# EAGLE library part IEC60034-8_3PHZ (library M-ExProof)
Single three-phase winding for delta and Y (star) connection. NOTE: 230V delta supply is the same as a 400V Y. The motor is connected Y for full power, and delta for reduced starting current.
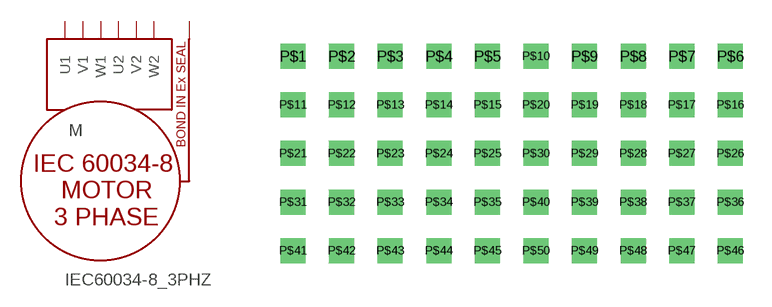
[diagram p0: symbol with the pads of NA-50; footprint NA-50]

Designator prefix M

## IEC60034-8_3PHZ  [NA-50]
P$1  GND
P$2  U1
P$3  U2
P$4  V1
P$5  V2
P$6  W1
P$7  W2

## Footprint NA-50 (pad centres in mm)
drill 0.8 square: P$1 -11.43,5.08; P$2 -8.89,5.08; P$3 -6.35,5.08; P$4 -3.81,5.08; P$5 -1.27,5.08; P$6 11.43,5.08; P$7 8.89,5.08; P$8 6.35,5.08; P$9 3.81,5.08; P$10 1.27,5.08; P$11 -11.43,2.54; P$12 -8.89,2.54; P$13 -6.35,2.54; P$14 -3.81,2.54; P$15 -1.27,2.54; P$16 11.43,2.54; P$17 8.89,2.54; P$18 6.35,2.54; P$19 3.81,2.54; P$20 1.27,2.54; P$21 -11.43,0; P$22 -8.89,0; P$23 -6.35,0; P$24 -3.81,0; P$25 -1.27,0; P$26 11.43,0; P$27 8.89,0; P$28 6.35,0; P$29 3.81,0; P$30 1.27,0; P$31 -11.43,-2.54; P$32 -8.89,-2.54; P$33 -6.35,-2.54; P$34 -3.81,-2.54; P$35 -1.27,-2.54; P$36 11.43,-2.54; P$37 8.89,-2.54; P$38 6.35,-2.54; P$39 3.81,-2.54; P$40 1.27,-2.54; P$41 -11.43,-5.08; P$42 -8.89,-5.08; P$43 -6.35,-5.08; P$44 -3.81,-5.08; P$45 -1.27,-5.08; P$46 11.43,-5.08; P$47 8.89,-5.08; P$48 6.35,-5.08; P$49 3.81,-5.08; P$50 1.27,-5.08